# Altium schematic symbol library IQS127D-00000-TSR.SchLib: 1 symbol
Pins are listed as number, name and electrical type; pins without a type are passive.

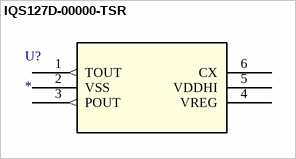
[diagram p0: symbol IQS127D-00000-TSR]

## IQS127D-00000-TSR
designator U?
No Description Available; Mfr_Name: Azoteq; RefDes: RefDes; Type: Type
footprint TSOT23-6_AZQ
pins: 1 TOUT (out), 2 VSS (power), 3 POUT (out), 4 VREG (power), 5 VDDHI (power), 6 CX